# EAGLE library part TPS2421 (library DSDEagleLibrary)
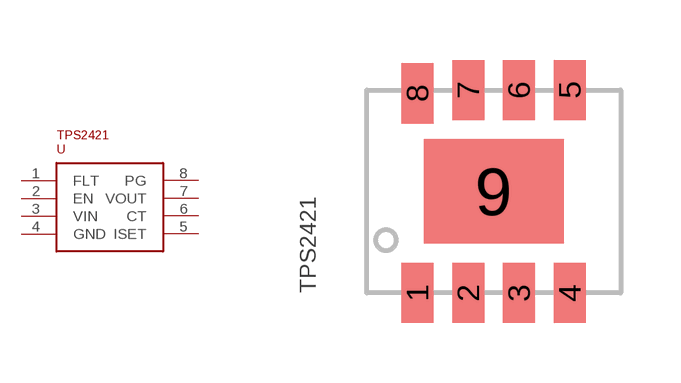
[diagram p16: symbol with the pads of TPS2421; footprint TPS2421]

Designator prefix -

## TPS2421  [TPS2421]
1  FLT
2  EN
3  VIN
4  GND
5  ISET
6  CT
7  VOUT
8  PG

## Footprint TPS2421 (pad centres in mm)
smd 0.802 x 1.505: 1 0,0; 2 1.27,0; 3 2.54,0; 4 3.81,0; 5 3.81,5.08; 6 2.54,5.08; 7 1.27,5.08; 8 0,4.995
smd 3.502 x 2.613: 9 1.905,2.54